# Altium footprint library SDcard.PcbLib: 1 footprints
Each footprint in its own frame and in the unit in brackets; x right, y up, seen from the top. Pads: shape width x height; smd on the part's side, far side on the other; paste and mask are expansions set on the pad; w line width, h text height; cw(c..) or ccw(c..) is an arc to the next point about the centre after c.
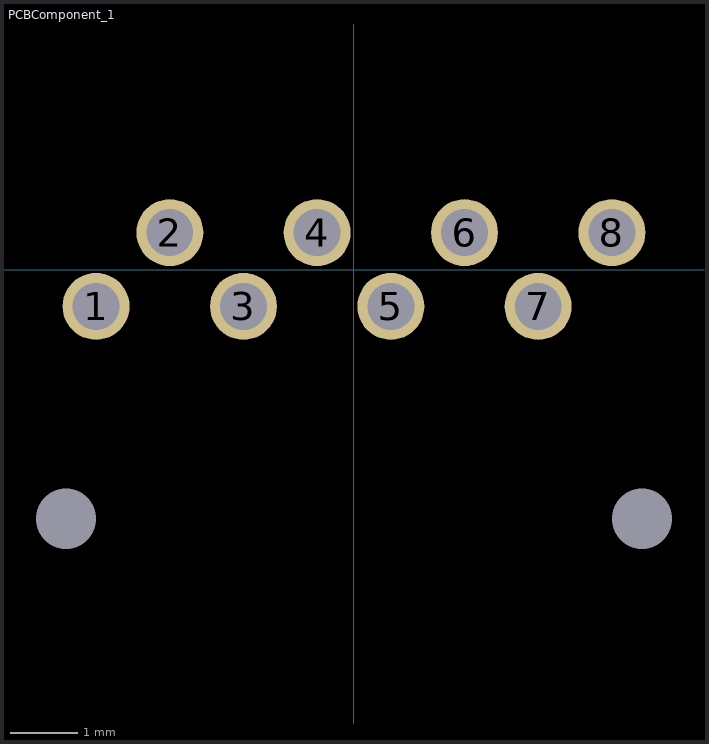
[diagram p0: the footprint, top view; thin cyan lines are the x and y axes]

## PCBComponent_1 [mm]
pads (10):
  round 1 hole 0.7: 1(-3.85,-0.55) 2(-2.75,0.55) 3(-1.65,-0.55) 4(-0.55,0.55) 5(0.55,-0.55) 6(1.65,0.55) 7(2.75,-0.55) 8(3.85,0.55)
  round 0 hole 0.9: ""(-4.3,-3.72) ""(4.3,-3.72)